# Altium schematic symbol library IC-DP_SOT23-6L.SchLib: 1 symbol
Pins are listed as number, name and electrical type; pins without a type are passive.

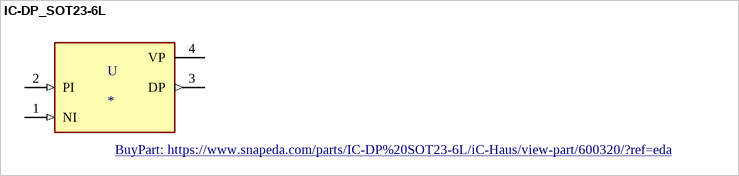
[diagram p0: symbol IC-DP_SOT23-6L]

## IC-DP_SOT23-6L
designator U
Driver IC [IC Haus] IC-DP SOT23-6L Driver IC; MF: iC-Haus; SnapEDA_Link: https://www.snapeda.com/parts/IC-DP%20SOT23-6L/iC-Haus/view-part/600320/?ref=snap; Price: None; Package: SOT-23-6 iC-Haus; Availability: Unavailable; Value: *; MP: IC-DP SOT23-6L; BuyPart: https://www.snapeda.com/parts/IC-DP%20SOT23-6L/iC-Haus/view-part/600320/?ref=eda
footprint IC_IC-DP_SOT23-6L
pins: 1 NI (in), 2 PI (in), 3 DP (out), 4 VP (power)